# Altium schematic symbol library AT24C04D-XHM-B.SchLib: 1 symbol
Pins are listed as number, name and electrical type; pins without a type are passive.

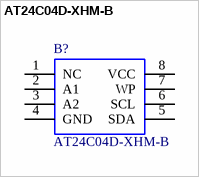
[diagram p0: symbol AT24C04D-XHM-B]

## AT24C04D-XHM-B
designator B?
Atmel AT24C04D-XHM-B EEPROM Memory Chip, 4kbit, 1.7  3.6 V 8-Pin TSSOP; Manufacturer_Name: Microchip; Geometry.Height: 1.2mm; Mouser Part Number: 556-AT24C04D-XHM-B; Mouser Price/Stock: https://www.mouser.co.uk/ProductDetail/Microchip-Technology/AT24C04D-XHM-B?qs=E2PpAYvlWVuNqXOGsLWx2Q%3D%3D; Manufacturer_Part_Number: AT24C04D-XHM-B; Datasheet Link: http://ww1.microchip.com/downloads/en/devicedoc/atmel-8896e-seeprom-at24c04d-datasheet.pdf
footprint SOP65P640X120-8N
pins: 1 NC, 2 A1, 3 A2, 4 GND, 5 SDA, 6 SCL, 7 WP, 8 VCC